# EAGLE library part MPU-6050 (library Deegou_IC)
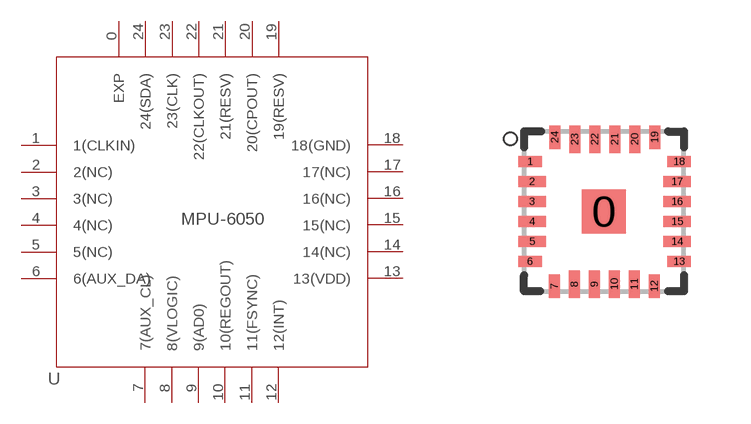
[diagram p155: symbol with the pads of QFN24-4X4; footprint QFN24-4X4]

Designator prefix U

## MPU-6050  [QFN24-4X4]
0  EXP
1  1(CLKIN)
2  2(NC)
3  3(NC)
4  4(NC)
5  5(NC)
6  6(AUX_DA)
7  7(AUX_CL)
8  8(VLOGIC)
9  9(AD0)
10  10(REGOUT)
11  11(FSYNC)
12  12(INT)
13  13(VDD)
14  14(NC)
15  15(NC)
16  16(NC)
17  17(NC)
18  18(GND)
19  19(RESV)
20  20(CPOUT)
21  21(RESV)
22  22(CLKOUT)
23  23(CLK)
24  24(SDA)

## Footprint QFN24-4X4 (pad centres in mm)
smd 1.1 x 1.1: 0 0,0
smd 0.59 x 0.28: 1 -1.85,1.25; 6 -1.85,-1.25; 13 1.88,-1.25; 18 1.88,1.25
smd 0.69 x 0.28: 2 -1.8,0.75; 3 -1.8,0.25; 4 -1.8,-0.25; 5 -1.8,-0.75; 14 1.83,-0.75; 15 1.83,-0.25; 16 1.83,0.25; 17 1.83,0.75
smd 0.28 x 0.59: 7 -1.24,-1.87; 12 1.26,-1.87; 19 1.27,1.86; 24 -1.23,1.86
smd 0.28 x 0.69: 8 -0.74,-1.82; 9 -0.24,-1.82; 10 0.26,-1.82; 11 0.76,-1.82; 20 0.77,1.81; 21 0.27,1.81; 22 -0.23,1.81; 23 -0.73,1.81